# Altium schematic symbol library th_cap.SCHLIB: 1 symbol
Pins are listed as number, name and electrical type; pins without a type are passive.

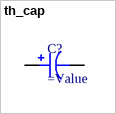
[diagram p0: symbol th_cap]

## th_cap
designator C?
SMT Polarised Capacitor
footprint th_cap (Connector; Header; 2 Position)
pins: 1, 2